# Altium footprint library WSLP4026L5000FEA.PcbLib: 1 footprints
Each footprint in its own frame and in the unit in brackets; x right, y up, seen from the top. Pads: shape width x height; smd on the part's side, far side on the other; paste and mask are expansions set on the pad; w line width, h text height; cw(c..) or ccw(c..) is an arc to the next point about the centre after c.
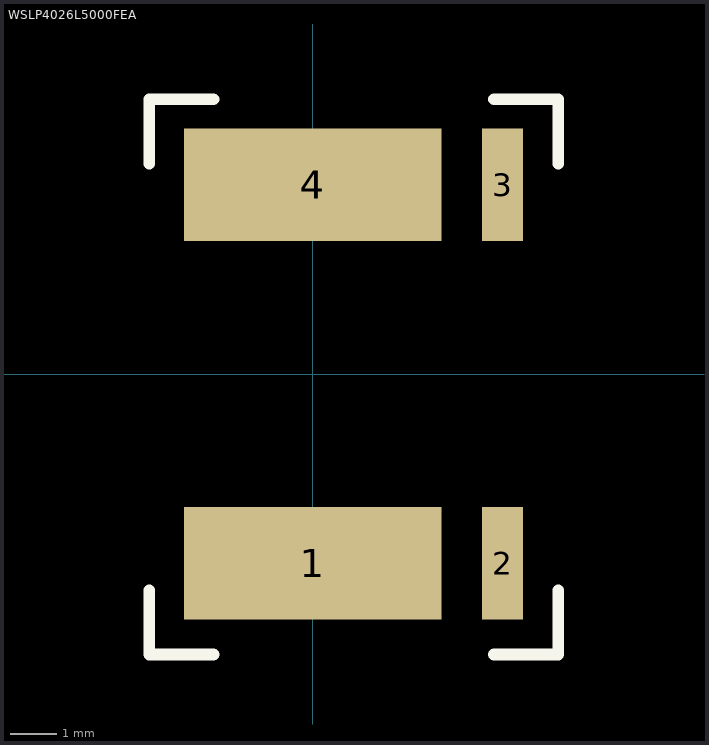
[diagram p0: the footprint, top view; thin cyan lines are the x and y axes]

## WSLP4026L5000FEA [mm]
pads (4):
  rect 5.6x2.44 smd: 1(0,-4.115) 4(0,4.115)
  rect 0.89x2.44 smd: 2(4.127,-4.115) 3(4.127,4.115)
Top Overlay:
  lines w0.254: -3.556,-4.699 -3.556,-6.096 -2.159,-6.096 ; -3.556,4.572 -3.556,5.969 -2.159,5.969 ; 3.937,-6.096 5.334,-6.096 5.334,-4.699 ; 3.937,5.969 5.334,5.969 5.334,4.572
3D body "WSLP4026 (0.002).step": height 2.79, standoff -0.12, extent -2.155,-5.02 4.445,5.08